# EAGLE library part ASP-134604-01 (library fmc adapter eagle)
CONN HDR 160POS SMD VITA 57.1 Check prices <https://pricing.snapeda.com/parts/ASP-134604-01/Samtec%20Inc./view-part?ref=eda>
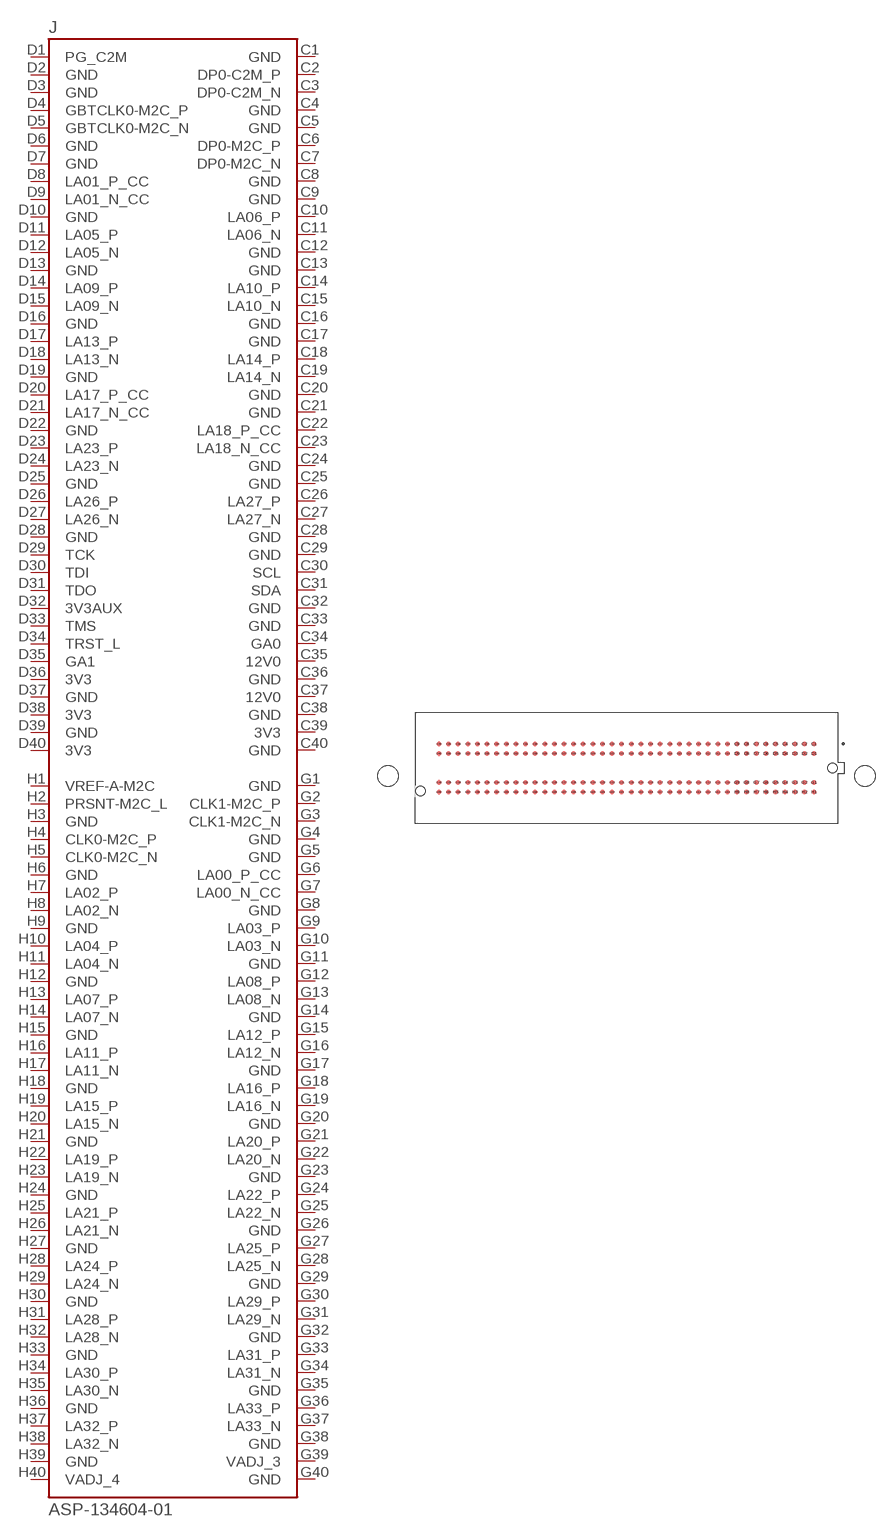
[diagram p0: symbol with the pads of SAMTEC_ASP-134604-01; footprint SAMTEC_ASP-134604-01]

Designator prefix J

## ASP-134604-01 (AVAILABILITY: Good; DESCRIPTION: 160 Position Connector Array, Male Pins Surface Mount Gold; MF: Samtec Inc.; MP: ASP-134604-01; PACKAGE: None; PRICE: None; PURCHASE-URL: https://pricing.snapeda.com/search/part/ASP-134604-01/?ref=eda)  [SAMTEC_ASP-134604-01]
C1  GND  pas
C2  DP0-C2M_P  pas
C3  DP0-C2M_N  pas
C4  GND  pas
C5  GND  pas
C6  DP0-M2C_P  pas
C7  DP0-M2C_N  pas
C8  GND  pas
C9  GND  pas
C10  LA06_P  pas
C11  LA06_N  pas
C12  GND  pas
C13  GND  pas
C14  LA10_P  pas
C15  LA10_N  pas
C16  GND  pas
C17  GND  pas
C18  LA14_P  pas
C19  LA14_N  pas
C20  GND  pas
C21  GND  pas
C22  LA18_P_CC  pas
C23  LA18_N_CC  pas
C24  GND  pas
C25  GND  pas
C26  LA27_P  pas
C27  LA27_N  pas
C28  GND  pas
C29  GND  pas
C30  SCL  pas
C31  SDA  pas
C32  GND  pas
C33  GND  pas
C34  GA0  pas
C35  12V0  pas
C36  GND  pas
C37  12V0  pas
C38  GND  pas
C39  3V3  pas
C40  GND  pas
D1  PG_C2M  pas
D2  GND  pas
D3  GND  pas
D4  GBTCLK0-M2C_P  pas
D5  GBTCLK0-M2C_N  pas
D6  GND  pas
D7  GND  pas
D8  LA01_P_CC  pas
D9  LA01_N_CC  pas
D10  GND  pas
D11  LA05_P  pas
D12  LA05_N  pas
D13  GND  pas
D14  LA09_P  pas
D15  LA09_N  pas
D16  GND  pas
D17  LA13_P  pas
D18  LA13_N  pas
D19  GND  pas
D20  LA17_P_CC  pas
D21  LA17_N_CC  pas
D22  GND  pas
D23  LA23_P  pas
D24  LA23_N  pas
D25  GND  pas
D26  LA26_P  pas
D27  LA26_N  pas
D28  GND  pas
D29  TCK  pas
D30  TDI  pas
D31  TDO  pas
D32  3V3AUX  pas
D33  TMS  pas
D34  TRST_L  pas
D35  GA1  pas
D36  3V3  pas
D37  GND  pas
D38  3V3  pas
D39  GND  pas
D40  3V3  pas
G1  GND  pas
G2  CLK1-M2C_P  pas
G3  CLK1-M2C_N  pas
G4  GND  pas
G5  GND  pas
G6  LA00_P_CC  pas
G7  LA00_N_CC  pas
G8  GND  pas
G9  LA03_P  pas
G10  LA03_N  pas
G11  GND  pas
G12  LA08_P  pas
G13  LA08_N  pas
G14  GND  pas
G15  LA12_P  pas
G16  LA12_N  pas
G17  GND  pas
G18  LA16_P  pas
G19  LA16_N  pas
G20  GND  pas
G21  LA20_P  pas
G22  LA20_N  pas
G23  GND  pas
G24  LA22_P  pas
G25  LA22_N  pas
G26  GND  pas
G27  LA25_P  pas
G28  LA25_N  pas
G29  GND  pas
G30  LA29_P  pas
G31  LA29_N  pas
G32  GND  pas
G33  LA31_P  pas
G34  LA31_N  pas
G35  GND  pas
G36  LA33_P  pas
G37  LA33_N  pas
G38  GND  pas
G39  VADJ_3  pas
G40  GND  pas
H1  VREF-A-M2C  pas
H2  PRSNT-M2C_L  pas
H3  GND  pas
H4  CLK0-M2C_P  pas
H5  CLK0-M2C_N  pas
H6  GND  pas
H7  LA02_P  pas
H8  LA02_N  pas
H9  GND  pas
H10  LA04_P  pas
H11  LA04_N  pas
H12  GND  pas
H13  LA07_P  pas
H14  LA07_N  pas
H15  GND  pas
H16  LA11_P  pas
H17  LA11_N  pas
H18  GND  pas
H19  LA15_P  pas
H20  LA15_N  pas
H21  GND  pas
H22  LA19_P  pas
H23  LA19_N  pas
H24  GND  pas
H25  LA21_P  pas
H26  LA21_N  pas
H27  GND  pas
H28  LA24_P  pas
H29  LA24_N  pas
H30  GND  pas
H31  LA28_P  pas
H32  LA28_N  pas
H33  GND  pas
H34  LA30_P  pas
H35  LA30_N  pas
H36  GND  pas
H37  LA32_P  pas
H38  LA32_N  pas
H39  GND  pas
H40  VADJ_4  pas

## Footprint SAMTEC_ASP-134604-01 (pad centres in mm)
smd 0.64 x 0.64: C1 24.765,3.175; C2 23.495,3.175; C3 22.225,3.175; C4 20.955,3.175; C5 19.685,3.175; C6 18.415,3.175; C7 17.145,3.175; C8 15.875,3.175; C9 14.605,3.175; C10 13.335,3.175; C11 12.065,3.175; C12 10.795,3.175; C13 9.525,3.175; C14 8.255,3.175; C15 6.985,3.175; C16 5.715,3.175; C17 4.445,3.175; C18 3.175,3.175; C19 1.905,3.175; C20 0.635,3.175; C21 -0.635,3.175; C22 -1.905,3.175; C23 -3.175,3.175; C24 -4.445,3.175; C25 -5.715,3.175; C26 -6.985,3.175; C27 -8.255,3.175; C28 -9.525,3.175; C29 -10.795,3.175; C30 -12.065,3.175; C31 -13.335,3.175; C32 -14.605,3.175; C33 -15.875,3.175; C34 -17.145,3.175; C35 -18.415,3.175; C36 -19.685,3.175; C37 -20.955,3.175; C38 -22.225,3.175; C39 -23.495,3.175; C40 -24.765,3.175; D1 24.765,1.905; D2 23.495,1.905; D3 22.225,1.905; D4 20.955,1.905; D5 19.685,1.905; D6 18.415,1.905; D7 17.145,1.905; D8 15.875,1.905; D9 14.605,1.905; D10 13.335,1.905; D11 12.065,1.905; D12 10.795,1.905; D13 9.525,1.905; D14 8.255,1.905; D15 6.985,1.905; D16 5.715,1.905; D17 4.445,1.905; D18 3.175,1.905; D19 1.905,1.905; D20 0.635,1.905; D21 -0.635,1.905; D22 -1.905,1.905; D23 -3.175,1.905; D24 -4.445,1.905; D25 -5.715,1.905; D26 -6.985,1.905; D27 -8.255,1.905; D28 -9.525,1.905; D29 -10.795,1.905; D30 -12.065,1.905; D31 -13.335,1.905; D32 -14.605,1.905; D33 -15.875,1.905; D34 -17.145,1.905; D35 -18.415,1.905; D36 -19.685,1.905; D37 -20.955,1.905; D38 -22.225,1.905; D39 -23.495,1.905; D40 -24.765,1.905; G1 24.765,-1.905; G2 23.495,-1.905; G3 22.225,-1.905; G4 20.955,-1.905; G5 19.685,-1.905; G6 18.415,-1.905; G7 17.145,-1.905; G8 15.875,-1.905; G9 14.605,-1.905; G10 13.335,-1.905; G11 12.065,-1.905; G12 10.795,-1.905; G13 9.525,-1.905; G14 8.255,-1.905; G15 6.985,-1.905; G16 5.715,-1.905; G17 4.445,-1.905; G18 3.175,-1.905; G19 1.905,-1.905; G20 0.635,-1.905; G21 -0.635,-1.905; G22 -1.905,-1.905; G23 -3.175,-1.905; G24 -4.445,-1.905; G25 -5.715,-1.905; G26 -6.985,-1.905; G27 -8.255,-1.905; G28 -9.525,-1.905; G29 -10.795,-1.905; G30 -12.065,-1.905; G31 -13.335,-1.905; G32 -14.605,-1.905; G33 -15.875,-1.905; G34 -17.145,-1.905; G35 -18.415,-1.905; G36 -19.685,-1.905; G37 -20.955,-1.905; G38 -22.225,-1.905; G39 -23.495,-1.905; G40 -24.765,-1.905; H1 24.765,-3.175; H2 23.495,-3.175; H3 22.225,-3.175; H4 20.955,-3.175; H5 19.685,-3.175; H6 18.415,-3.175; H7 17.145,-3.175; H8 15.875,-3.175; H9 14.605,-3.175; H10 13.335,-3.175; H11 12.065,-3.175; H12 10.795,-3.175; H13 9.525,-3.175; H14 8.255,-3.175; H15 6.985,-3.175; H16 5.715,-3.175; H17 4.445,-3.175; H18 3.175,-3.175; H19 1.905,-3.175; H20 0.635,-3.175; H21 -0.635,-3.175; H22 -1.905,-3.175; H23 -3.175,-3.175; H24 -4.445,-3.175; H25 -5.715,-3.175; H26 -6.985,-3.175; H27 -8.255,-3.175; H28 -9.525,-3.175; H29 -10.795,-3.175; H30 -12.065,-3.175; H31 -13.335,-3.175; H32 -14.605,-3.175; H33 -15.875,-3.175; H34 -17.145,-3.175; H35 -18.415,-3.175; H36 -19.685,-3.175; H37 -20.955,-3.175; H38 -22.225,-3.175; H39 -23.495,-3.175; H40 -24.765,-3.175
hole 1.27 at -27.191,-3.05
hole 1.27 at 27.19,0
hole 2.7 at -31.491,-1.05
hole 2.7 at 31.49,-1.05